# EAGLE library part INA219 (library HAB)
INA219 26-V, Bi-Directional, Zero-Drift, High-Side, I2C Out Current/Power Monitor
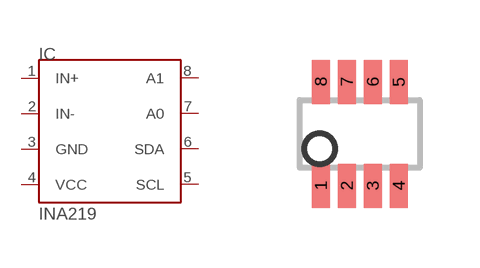
[diagram p9: symbol with the pads of SOT23-8; footprint SOT23-8]

Designator prefix IC

## INA219SOT  [SOT23-8]
1  IN+  pas
2  IN-  pas
3  GND  pwr
4  VCC  pwr
5  SCL  in
6  SDA
7  A0  in
8  A1  in

## Footprint SOT23-8 (pad centres in mm)
SMALL OUTLINE TRANSISTOR 8 PIN
smd 0.45 x 1.1: 1 -0.975,-1.3; 2 -0.325,-1.3; 3 0.325,-1.3; 4 0.975,-1.3; 5 0.975,1.3; 6 0.325,1.3; 7 -0.325,1.3; 8 -0.975,1.3